# Altium schematic symbol library IXTA6N100D2.SchLib: 1 symbol
Pins are listed as number, name and electrical type; pins without a type are passive.

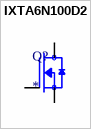
[diagram p0: symbol IXTA6N100D2]

## IXTA6N100D2
designator Q?
N-Channel 1000 V 6 A 2.2 Ohm SMT Depletion Mode Power Mosfet - D2PAK; MF: {'manufacturer': u'IXYS'}; MP: IXTA6N100D2; Package: None; Price: None; Value: *; Availability: Unavailable
footprint DPAK254P1524X483-3N
pins: 1 G, 3 S, 4 D